# EAGLE library part PIC12F617 (library microchip_pic12f)
Low pincount microcontroller http://www.microchip.com/wwwproducts/Devices.aspx?product=PIC12F617 Properties Parameter Name Value Program Memory Type Flash Program Memory (KB) 3.5 CPU Speed (MIPS) 5 RAM Bytes 128 Capture/Compare/PWM Peripherals 1 ECCP / Timers 2 x 8-bit, 1 x 16-bit ADC 4 ch, 10-bit Comparators 1 Temperature Range (C) -40 to 125 Operating Voltage Range (V) 2 to 5.5 Pin Count 8 Cap Touch Channels 4 Features Self Read-Write Flash Program Memory Internal 4/8MHz oscillator Comparator with hysterisis (user configurable) Mid-Range core with 35 Instruction, 8 Stack Levels 25mA Source/Sink current I/O Two 8-bit Timer (TMR0/TMR2) One 16-bit Timer (TMR1) Watchdog Timer (WDT) Enhanced Power-On/Off-Reset Brown-Out Reset (BOR) In Circuit Serial Programming (ICSP) Enhanced Capture Compare PWM (Pulse Width Modulation) Wide Operating Voltage (2.0V – 5.5V) Library from www.mikroelektroniikka.fi/lbr
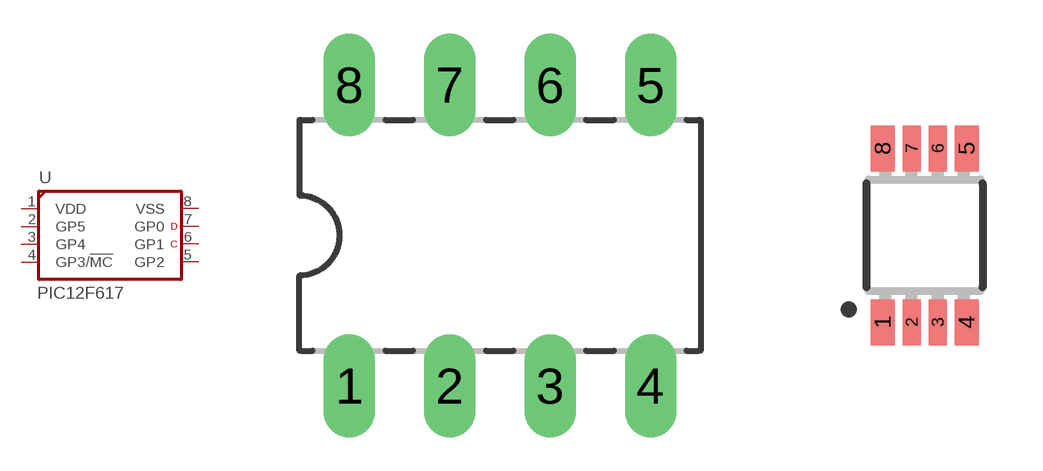
[diagram p12: symbol with the pads of DIL8-P; footprints DIL8-P, MSOP8-MS]

Designator prefix U

## PIC12F617/P  [DIL8-P]
1  VDD  pas
2  GP5
3  GP4
4  GP3/!MC!
5  GP2
6  GP1
7  GP0
8  VSS  pas

## PIC12F617/MS  [MSOP8-MS]
Pads as for DIL8-P

## PIC12F617/SN  [SOIC8-SN]
Pads as for DIL8-P

## PIC12F617/MF  [DFN8-MF]
1  VDD  pas
2  GP5
3  GP4
4  GP3/!MC!
5  GP2
6  GP1
7  GP0
8  VSS  pas
EP  VSS  pas

## Footprint DIL8-P (pad centres in mm)
PDIP8 (P) 8-Lead plastic dual in line - 300mil body
drill 0.8 pad 1.3 long: 1 -3.81,-3.81; 2 -1.27,-3.81; 3 1.27,-3.81; 4 3.81,-3.81; 5 3.81,3.81; 6 1.27,3.81; 7 -1.27,3.81; 8 -3.81,3.81

## Footprint MSOP8-MS (pad centres in mm)
MSOP8 (MS) 8-Lead plastic micro small outline package 3 mm body 0.65 mm pitch - TSSOP8
smd 0.6 x 1.15: 1 -1.05,-2.175; 4 1.05,-2.175; 5 1.05,2.175; 8 -1.05,2.175
smd 0.45 x 1.15: 2 -0.325,-2.175; 3 0.325,-2.175; 6 0.325,2.175; 7 -0.325,2.175

## Footprint SOIC8-SN (pad centres in mm)
SOIC8 (SN) 8-Lead plastic small outline - narrow - 3.9 mm body
smd 0.6 x 1.5: 1 -1.905,-2.7; 2 -0.635,-2.7; 3 0.635,-2.7; 4 1.905,-2.7; 5 1.905,2.7; 6 0.635,2.7; 7 -0.635,2.7; 8 -1.905,2.7

## Footprint DFN8-MF (pad centres in mm)
DFN8 (MF) 8-Lead plastic dual flat, no lead package - 3x3x0.9mm (Microchip)
smd 0.35 x 0.475: 1 -0.975,-1.637; 2 -0.325,-1.637; 3 0.325,-1.637; 4 0.975,-1.637; 5 0.975,1.637; 6 0.325,1.637; 7 -0.325,1.637; 8 -0.975,1.637
smd 2.4 x 1.55: EP 0,0